# EAGLE library part LM358DR2G (library IC)
IC OPAMP GP 2 CIRCUIT 8SOIC Manufacturer's datasheet <https://www.onsemi.com/pub/Collateral/LM358-D.PDF>
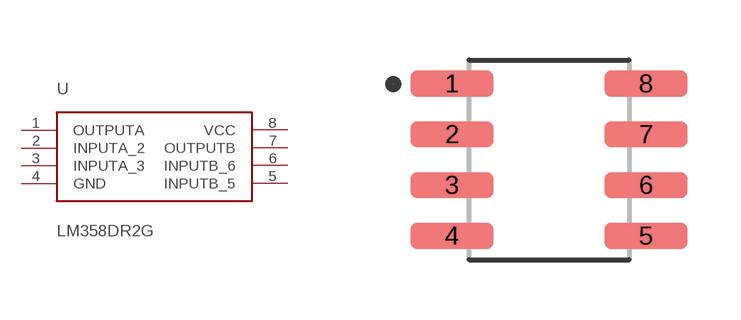
[diagram p1: symbol with the pads of LM358DR2G; footprint LM358DR2G]

Designator prefix U

## LM358DR2G (CREATED_BY: PCBLayout.com; DIGIKEY_PART_NUMBER: LM358DR2GOSCT-ND; MANUFACTURER: ON Semiconductor; MPN: LM358DR2G; PACKAGE: 8-SOIC)  [LM358DR2G]
1  OUTPUTA  out
2  INPUTA_2  in
3  INPUTA_3  in
4  GND  pwr
5  INPUTB_5  in
6  INPUTB_6  in
7  OUTPUTB  out
8  VCC  pwr

## Footprint LM358DR2G (pad centres in mm)
Small Outline IC (SOIC), 1.27 mm pitch; 8 pin, 4.90 mm L X 3.90 mm W X 1.75 mm H body PCB Libraries Packages
smd 2.07 x 0.66: 1 -2.425,1.905; 2 -2.425,0.635; 3 -2.425,-0.635; 4 -2.425,-1.905; 5 2.425,-1.905; 6 2.425,-0.635; 7 2.425,0.635; 8 2.425,1.905